# EAGLE library part LMG1205 (library GaN_Fet_ESC_V0.2)
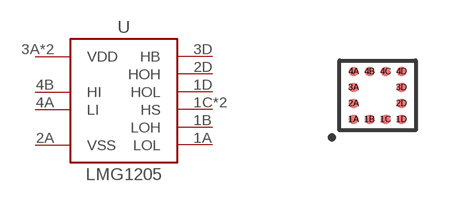
[diagram p5: symbol with the pads of LMG1205; footprint LMG1205]

Designator prefix U

## LMG1205  [LMG1205]
1A  LOL
1B  LOH
1C  HS
1D  HOL
2A  VSS
2D  HOH
3A  VDD
3D  HB
4A  LI
4B  HI
4C  VDD
4D  HS

## Footprint LMG1205 (pad centres in mm)
smd 0.24 x 0.24: 1A -0.6,-0.6; 1B -0.2,-0.6; 1C 0.2,-0.6; 1D 0.6,-0.6; 2A -0.6,-0.2; 2D 0.6,-0.2; 3A -0.6,0.2; 3D 0.6,0.2; 4A -0.6,0.6; 4B -0.2,0.6; 4C 0.2,0.6; 4D 0.6,0.6